# Altium schematic symbol library Schlib1.SchLib: 31 symbols
Pins are listed as number, name and electrical type; pins without a type are passive.

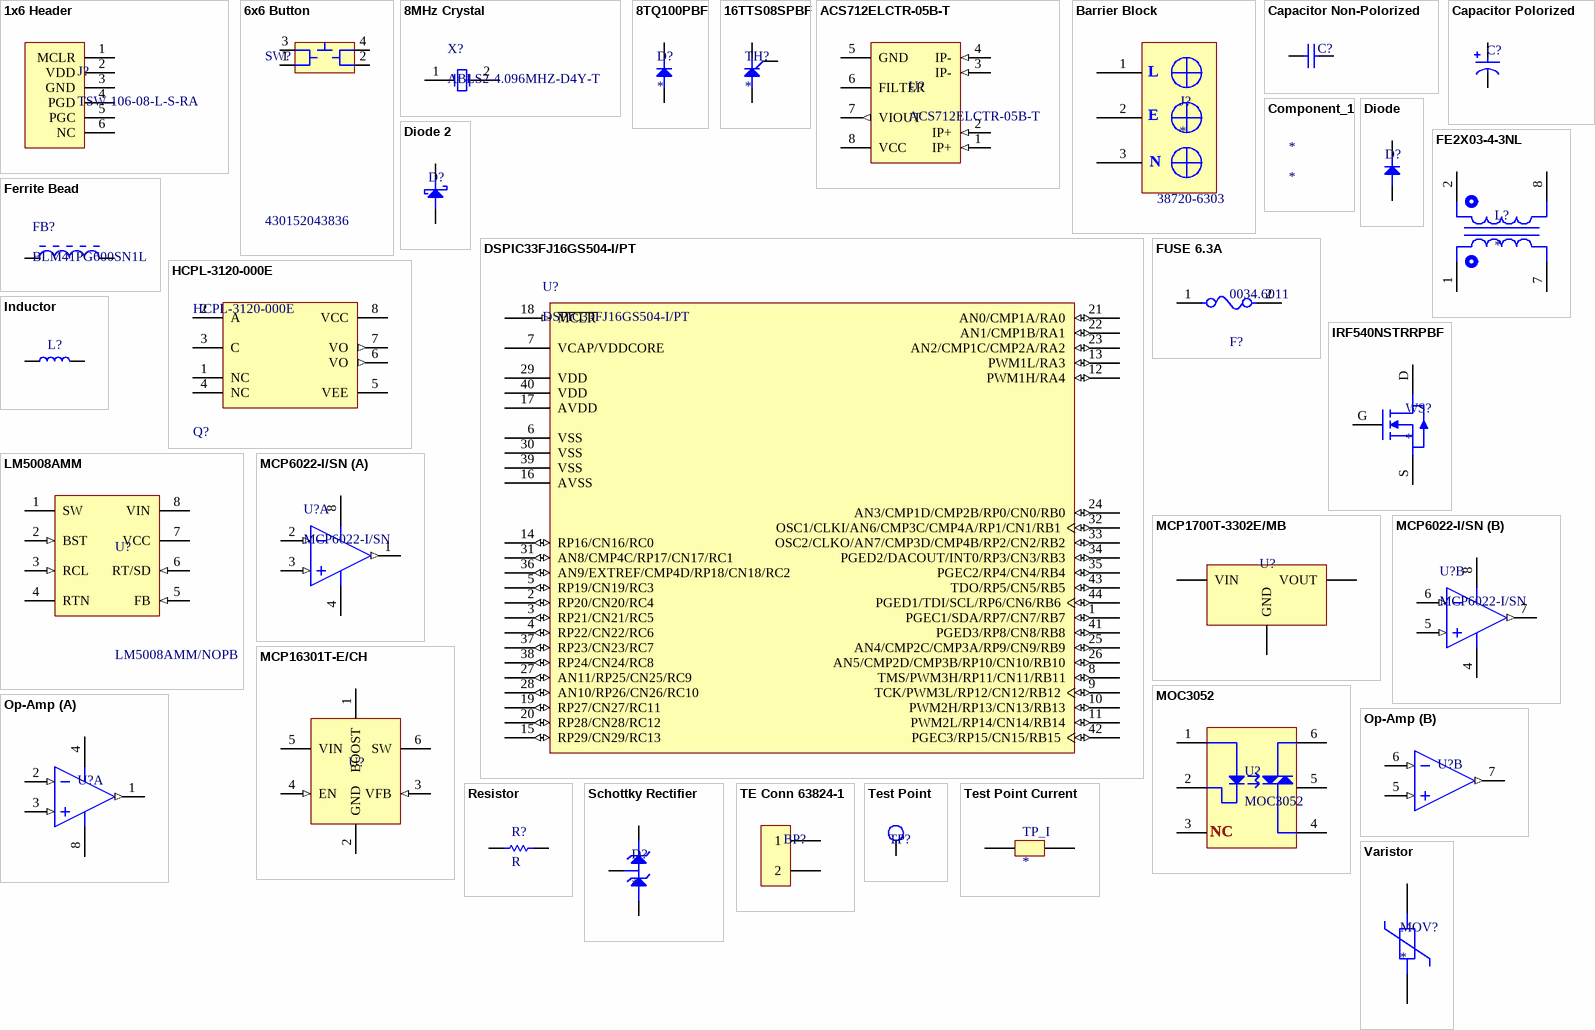
[diagram p0: symbols 1x6 Header to Varistor]

## 1x6 Header
designator J?, comment TSW-106-08-L-S-RA
0.025" SQ Post Header, Through-hole, Right Angle, -55 to 125 degC, 2.54 mm Pitch, 6-Pin, Male, RoHS; Manufacturer: Samtec; Pitch: 2.54 mm; ComponentLink2URL: http://www.samtec.com/documents/webfiles/pdf/TSW_TH.PDF; ComponentLink3Description: Package Specification; PackageVersion: DM, 8/1988; ComponentLink3URL: http://www.samtec.com/documents/webfiles/cpdf/TSW-XXX-XX-XXX-X-XX-XXX-MKT.pdf; ComponentLink1Description: Manufacturer URL; RoHS: True; ComponentLink2Description: Datasheet; PackageDescription: .025[0.64] SQ. Post Terminal Strip Assembly; Temperature Range: -55 to 125 degC; Orientation: Right Angle; DatasheetVersion: F-214; PartNumber: TSW-106-08-L-S-RA; PackageReference: TSW-106-08-X-S-RA; ComponentLink1URL: http://www.samtec.com; Mounting Technology: Through-hole
footprint 1x6 Header 2.54mm (.025 SQ Post Terminal Strip Assembly, 1x6 Pins, Right Angle, 2.54mm Pitch, Male)
pins: 1 MCLR, 2 VDD, 3 GND, 4 PGD, 5 PGC, 6 NC

## 6x6 Button
designator SW?, comment 430152043836
WS-TASV SMD Tact Switch 6X6 mm; Manufacturer: Wuerth Elektronik; NoPins: 04; PartNumber: 430152043836; ComponentLink2URL: http://katalog.we-online.de/em/datasheet/4301x2.pdf; ComponentLink1URL: http://www.we-online.com; ComponentLink2Description: Datasheet; ComponentLink1Description: Manufacturer URL; PackageReference: 430152043836
footprint 6x6mm Button (6*6mm vertical type, SMD, height 4.3mm, salmon actuator, 360gf, T&R)
pins: 1, 2, 3, 4

## 8MHz Crystal
designator X?, comment ABLS2-4.096MHZ-D4Y-T
Low Profile Surface Mount Microprocessor Crystal, 4.096 MHz +/-30 ppm, 180 Ohm, -40 to 85 degC, 2-Pin 11.4 x 4.7 x 3.3 mm SMD, RoHS, Tape and Reel; Manufacturer: Abracon; Operation Mode: Fundamental or 3rd Overtone; Shunt Capacitance: 7 pF Max.; ESR: 180 Ohm; Load Capacitance: 18 pF; Mounting Technology: Surface Mount; PackageDescription: 2-Pin SMD, Body 11.4 x 4.7 mm, Height 3.3 mm; ComponentLink1URL: http://www.abracon.com/; Freq. Stability: +/- 30 ppm; ComponentLink2Description: Datasheet; PartNumber: ABLS2-4.096MHZ-D4Y-T; Operating Temp. Range: -40 to 85 degC; Packing: Tape and Reel; RoHS: TRUE; PackageReference: ABLS2-2; DatasheetVersion: Rev. 03.31.11; Freq. Tolerance: +/- 30 ppm; Frequency: 4.096 MHz; ComponentLink2URL: http://www.abracon.com/Resonators/ABLS2.pdf; ComponentLink1Description: Manufacturer URL
footprint HC-49/US Crystal Footprint (SMD, 2-Leads, Body 11.4x4.7mm, Height 3.3mm)
pins: 1 X1, 2 X2

## 8TQ100PBF
designator D?
Diode Schottky 100V 8A Through Hole TO-220AC; MF: Vishay Semiconductor; MP: 8TQ100PBF; SnapEDA_Link: https://www.snapeda.com/parts/8TQ100PBF/Vishay%20Semiconductor%20Diodes%20Division/view-part/454671/?ref=snap; Price: None; Value: *; Availability: Unavailable; Package: TO-220 Vishay
footprint TO-220-2PIN
pins: A, K

## 16TTS08SPBF
designator TH?
Vishay, 16TTS08SPBF, Thyristor, 800V 10A, 60mA 3-pin, D2PAK; Hold Current: 100mA; RMS Current (Irms): 16A; Supplier 1: RSComponents; Manufacturer: Vishay; Manufacturer Part Number: 16TTS08SPBF; RoHS: Yes; Category: Thyristors; Mount: Surface Mount; Case/Package: D2PAK; Number of Pins: 3; Min Operating Temperature: -40°C; Max Operating Temperature: 125°C; Packaging: Rail/Tube; Max Repetitive Reverse Voltage (Vrrm): 800V; Current: 16A; Voltage: 800V; Length: 10.67mm; Height: 4.83mm; Width: 9.65mm; Lead Free: Lead Free; ComponentLink1URL: https://datasheet.ciiva.com/14801/vs-16tts08s-14801778.pdf?src-supplier=Arrow; ComponentLink1Description: https://datasheet.ciiva.com/14801/vs-16tts08s-14801778.pdf?src-supplier=Arrow; ComponentLink2URL: https://datasheet.ciiva.com/25624/0900766b800a9d57-25624882.pdf?src-supplier=RSComponents; ComponentLink2Description: https://datasheet.ciiva.com/25624/0900766b800a9d57-25624882.pdf?src-supplier=RSComponents; ComponentLink3URL: https://datasheet.ciiva.com/15247/vs-16tts08s-15247366.pdf?src-supplier=Arrow+Europe; ComponentLink3Description: https://datasheet.ciiva.com/15247/vs-16tts08s-15247366.pdf?src-supplier=Arrow+Europe; ComponentLink4URL: https://datasheet.ciiva.com/14166/07209018-14166634.pdf?src-supplier=Distrelec; ComponentLink4Description: https://datasheet.ciiva.com/14166/07209018-14166634.pdf?src-supplier=Distrelec; Supplier Part Number 1: 2640717P
pins: 1, A, K

## ACS712ELCTR-05B-T
designator U?
Linear Current Sensor, 4.5 to 5.5 V, 10 mA Output Current, -40 to 85 degC, 8-Pin SOIC (LC), RoHS, Tape and Reel; Manufacturer: Allegro Microsystems; SVHC: NoSVHC(19-Dec-2012); Supply Voltage Min: 4.5V; Accuracy: 1.5%; No. of Pins: 8; Supply Voltage Max: 5.5V; Bandwidth: 50kHz; Quiescent Current: 8mA; Supply Voltage Range: 4.5Vto5.5V; Polarisation: Unipolar; Package Description: 8-Pin Small Outline Integrated Circuit, Body 4.9 x 3.9 mm, Pitch 1.27 mm; Operating Temperature Min: -40degC; Datasheet URL: http://www.allegromicro.com/~/media/Files/Datasheets/ACS712-Datasheet.ashx?la=en; Operating Temperature Range: -40degCto+85degC; MSL: MSL2-1year; Sensor Case Style: SOIC; Termination Type: SMD; Manufacturer URL: http://www.allegromicro.com/; Sensor / Transducer Type: Current; Package Reference: LC-8; Operating Temperature Max: 85degC; Datasheet Version: Rev. 15, 11/2012
footprint 8 Lead SOIC (SOIC, 8-Leads, Body 4.9x3.9mm, Pitch 1.27mm)
pins: 1 IP+ (in) "Terminals for current being sampled; fused internally", 2 IP+ (in) "Terminals for current being sampled; fused internally", 3 IP- (in) "Terminals for current being sampled; fused internally", 4 IP- (in) "Terminals for current being sampled; fused internally", 5 GND (power) "Signal ground terminal", 6 FILTER "Terminal for external capacitor that sets bandwidth", 7 VIOUT (out) "Analog output signal", 8 VCC (power) "Device power supply terminal"

## Barrier Block
designator J?  Supplier Part Number 1: 38720-6303
Conn Barrier Strip 3 POS 9.52mm Solder ST Thru-Hole 15A/Contact; Manufacturer: Molex; Manufacturer Part Number: 0387206303; Number of Circuits: 3; Current Rating: 15A; Voltage Rating: 300V; Pitch: 0.375inch; Wire Gauge (Max): 22AWG; Wire Gauge (Min): 14AWG; Supplier 1: Arrow; RoHS: Yes; Category: Terminal Blocks; Stock 1: 404; Pricing 1: 1=2.52170, 10=1.97000, 25=1.82640, 50=1.64670, 100=1.59580, 250=1.40110, 500=1.27850, 1000=1.15620, 5000=1.01550 (USD); Mount: Through Hole; Contact Plating: Zinc; Contact Material: Steel; Color: Black; Housing Material: Thermoplastic; Housing Color: Black; Insulation Material: Thermoplastic; Min Operating Temperature: -40°C; Max Operating Temperature: 130°C; Termination: Solder; Number of Contacts: 3; Number of Rows: 1; Packaging: Tray; Orientation: Straight; Number of Wire Entries: 3; Max Supply Voltage: 300V; Length: 30.7mm; Depth: 15.7mm; Radiation Hardening: No; Flammability Rating: UL94 V-0; ComponentLink1URL: https://datasheet.ciiva.com/15170/getdatasheetpartid-255060-15170068.pdf?src-supplier=Verical; ComponentLink1Description: https://datasheet.ciiva.com/15170/getdatasheetpartid-255060-15170068.pdf?src-supplier=Verical; ComponentLink2URL: https://datasheet.ciiva.com/3141/0387206303-terminal-blocks-3141193.pdf?src-supplier=Avnet; ComponentLink2Description: https://datasheet.ciiva.com/3141/0387206303-terminal-blocks-3141193.pdf?src-supplier=Avnet; ComponentLink3URL: https://datasheet.ciiva.com/18547/387206306-sd-18547693.pdf?src-supplier=Digi-Key; ComponentLink3Description: https://datasheet.ciiva.com/18547/387206306-sd-18547693.pdf?src-supplier=Digi-Key
footprint Blcok Terminal
pins: 1, 2, 3
text: L; E; N

## Capacitor Non-Polorized
designator C?
Value: 10uF; Case-EIA: 1206; Tolerance: -20% to +80%; Rated Voltage: 25 V; Case-Metric: 3216; Max Thickness: 1.9 mm; Technology: SMT
footprint 1206 CAPACITOR (Chip Capacitor, Body 3.2x1.6mm, Height 1.9mm, IPC Low Density)
pins: 1, 2
1 alternate drawing of the same symbol

## Capacitor Polorized
designator C?
Value: 10uF; Case-EIA: 1206; Tolerance: -20% to +80%; Rated Voltage: 25 V; Case-Metric: 3216; Max Thickness: 1.9 mm; Technology: SMT
footprint 1206 CAPACITOR (Chip Capacitor, Body 3.2x1.6mm, Height 1.9mm, IPC Low Density)
pins: 1, 2
1 alternate drawing of the same symbol

## Component_1
designator *

## Diode
designator D?
footprint SOT-523F
footprint SOD-323 (SOD, 2-Leads, Body 1.7x1.25mm)
footprint DO-214AC-SMA (Molded Diode, 2-Leads, Body 4.75x2.95mm)
pins: A, K

## Diode 2
designator D?
Manufacturer: FairchildSemiconductor; Type: SchottkyDiode; Peak Average Forward Current: 1@Ta=75CA; Peak Reverse Current: 200uA; Peak Non-Repetitive Surge Current: 40A; Configuration: Single; Peak Forward Voltage: 0.7V; Peak Reverse Repetitive Voltage: 60V; Package: 2DO-214AC; Datasheet URL: http://www.mouser.com/ds/2/149/SS16-196707.pdf; Package Description: 2-Pin Surface Mount Device, Body 4.375 x 2.725 mm; Packaging: Tape&Reel; Package Reference: SMA-2; Mounting: SurfaceMount; Operating Temperature: -65to125°C; Datasheet Version: Rev. 1.9, 01/2015; Mounting Technology: SurfaceMount; Category: Rectifier; Manufacturer URL: https://www.fairchildsemi.com/
footprint DO-214AC-SMA (Molded Diode, 2-Leads, Body 4.75x2.95mm)
pins: 1, 2

## DSPIC33FJ16GS504-I/PT
designator U?
High-Performance 16-bit Digital Signal Controller, 16 KB Flash, 2 KB RAM , 44-Pin TQFP, Industrial Temperature; PackageVersion: revBB, Aug-2009; PackageDescription: 44-Lead Plastic Thin Quad Flatpack (PT) - 10x10x1mm Body, 2.00mm [TQFP]; Code_JEDEC: MS-026; PackageReference: TQFP-PT44; DatasheetVersion: revD, Mar-2009
footprint dsPIC33F16GS504 Connector
pins: 1 PGEC1/SDA/RP7/CN7/RB7 (io), 2 RP20/CN20/RC4 (io), 3 RP21/CN21/RC5 (io), 4 RP22/CN22/RC6 (io), 5 RP19/CN19/RC3 (io), 6 VSS (power), 7 VCAP/VDDCORE (power), 8 TMS/PWM3H/RP11/CN11/RB11 (io), 9 TCK/PWM3L/RP12/CN12/RB12 (io), 10 PWM2H/RP13/CN13/RB13 (io), 11 PWM2L/RP14/CN14/RB14 (io), 12 PWM1H/RA4 (io), 13 PWM1L/RA3 (io), 14 RP16/CN16/RC0 (io), 15 RP29/CN29/RC13 (io), 16 AVSS (power), 17 AVDD (power), 18 ~{MCLR} (in), 19 RP27/CN27/RC11 (io), 20 RP28/CN28/RC12 (io), 21 AN0/CMP1A/RA0 (io), 22 AN1/CMP1B/RA1 (io), 23 AN2/CMP1C/CMP2A/RA2 (io), 24 AN3/CMP1D/CMP2B/RP0/CN0/RB0 (io), 25 AN4/CMP2C/CMP3A/RP9/CN9/RB9 (io), 26 AN5/CMP2D/CMP3B/RP10/CN10/RB10 (io), 27 AN11/RP25/CN25/RC9 (io), 28 AN10/RP26/CN26/RC10 (io), 29 VDD (power), 30 VSS (power), 31 AN8/CMP4C/RP17/CN17/RC1 (io), 32 OSC1/CLKI/AN6/CMP3C/CMP4A/RP1/CN1/RB1 (io), 33 OSC2/CLKO/AN7/CMP3D/CMP4B/RP2/CN2/RB2 (io), 34 PGED2/DACOUT/INT0/RP3/CN3/RB3 (io), 35 PGEC2/RP4/CN4/RB4 (io), 36 AN9/EXTREF/CMP4D/RP18/CN18/RC2 (io), 37 RP23/CN23/RC7 (io), 38 RP24/CN24/RC8 (io), 39 VSS (power), 40 VDD (power), 41 PGED3/RP8/CN8/RB8 (io), 42 PGEC3/RP15/CN15/RB15 (io), 43 TDO/RP5/CN5/RB5 (io), 44 PGED1/TDI/SCL/RP6/CN6/RB6 (io)

## FE2X03-4-3NL
designator L?
CHOKE COM MODE 2PHASE NOISE SUP; Manufacturer: Pulse; Manufacturer Part Number: FE2X03-4-3NL; Number of Lines: 2; Lead/Base Style: PC Pin; Inductance: 3.3mH; DC Resistance (DCR): 90mR; Current: 2.5A; Self Resonant Frequency: 700kHz; Supplier 1: Mouser; RoHS: Yes; Category: Common Mode Chokes; Stock 1: 485; Pricing 1: 1=3.62000, 10=3.22000, 100=2.17000, 250=2.10000, 500=1.93000, 1000=1.81000 (USD); Mount: Through Hole; Case/Package: DIP; Number of Pins: 4; Min Operating Temperature: 0°C; Max Operating Temperature: 60°C; Packaging: Rail/Tube; Package Quantity: 20; Max DC Current: 2.5A; Termination: Radial; Length: 22.9mm; Height: 0.606inch; Width: 22.9mm; Lead Pitch: 4mm; Depth: 22.9mm; Radiation Hardening: No; ComponentLink1URL: https://datasheet.ciiva.com/3293/+p538-3293276.pdf?src-supplier=Avnet; ComponentLink1Description: https://datasheet.ciiva.com/3293/+p538-3293276.pdf?src-supplier=Avnet; ComponentLink2URL: https://datasheet.ciiva.com/6214/+p538-6214495.pdf?src-supplier=Digi-Key; ComponentLink2Description: https://datasheet.ciiva.com/6214/+p538-6214495.pdf?src-supplier=Digi-Key; Supplier Part Number 1: 673-FE2X03-4-3NL
footprint FE2X03-4-3NL
pins: 1, 2, 7, 8

## Ferrite Bead
designator FB?, comment BLM41PG600SN1L
Chip Ferrite Bead for Power Lines, 60 Ohm, 6000 mA, -55 to 125 degC, 4.5 x 1.6 x 1.8 mm SMD, Tape and Reel; Manufacturer: Murata; Rated Current: 6000 mA; Impedance (at 100 MHz): 60 Ohm Typ.; DC Resistance: 0.009 Ohm Max.; Packing: Tape and Reel; Mounting Technology: Surface Mount; ComponentLink3URL: http://www.murata.com/products/catalog/pdf/c31e.pdf; ComponentLink3Description: Package Specification; ComponentLink1URL: http://www.murata.com/; PackageDescription: 2-Pin Chip, Body 4.5 x 1.6 mm; ComponentLink1Description: Manufacturer URL; ComponentLink2URL: http://www.murata.com/products/catalog/pdf/c31e.pdf; PartNumber: BLM41PG600SN1L; ComponentLink2Description: Datasheet; PackageReference: BLM41-2; Operating Temperature Range: -55 to 125 degC; DatasheetVersion: 08/2013
footprint Ferrite Bead (Chip Ferrite Bead, 2-Leads, Body 4.5x1.6mm, Height 1.8mm, 35um Land Pad Thickness, 6A Rated Current)
pins: 1, 2

## FUSE 6.3A
designator F?, comment 0034.6011
FUSE BOARD MNT 500MA 250VAC RAD; Manufacturer: Schurter; Max Fuse Ac Voltage: 250V; Fuse I2T: 0.09A2Sec; Fuse Current: 0.5A; Standoff Height: 0.5mm; Fuse Voltage Drop: 350mV; Fuse Blow Speed: Fast; Category: Fuse; RoHS: TRUE; Device Class L3: unset; Lead Free: Yes; Height: 8.5mm; ComponentLink2URL: https://us.schurter.com/en/datasheet/typ_MSF_250.pdf; Voltage Rating: 250V; ComponentLink2Description: Datasheet; Ambient Temperature Range Low: -40°C; Digikey Description: FUSE BOARD MNT 500MA 250VAC RAD; Automotive: No; Octopart: https://octopart.com/0034.6011-schurter-8310; Package: 0034.6011; Manufacturer Part Number: 0034.6011; Device Class L2: Fuses; Ambient Temperature Range High: +85°C; Device Class L1: Circuit Protection
footprint 230VAC RADIAL FUSE
pins: 1, 2

## HCPL-3120-000E
designator Q?
OPTOISO 3.75KV 1CH GATE DVR 8DIP; Manufacturer: Broadcom; Power Dissipation: 295mW; Turn On Delay Time: 0.3us; Min Supply Voltage: 15V; Isolation Voltage: 3750Vrms; Reverse Voltage: 5V; Forward Voltage: 1.5V; Max Supply Voltage: 30V; Forward Current: 10mA; Standoff Height: 0.51mm; Temperature Range Low: -40°C; Device Class L2: Optocouplers; Automotive: No; Mouser Description: Optocoupler; THT; Channels: 1; Out: IGBT driver; 35kV/µs; 3.75kV; Height: 4.7mm; Digikey Description: OPTOISO 3.75KV 1CH GATE DVR 8DIP; Turn Off Delay Time: 0.3us; Device Class L3: unset; Package: DIP-8; RoHS: TRUE; ComponentLink2URL: https://docs.broadcom.com/docs/AV02-0161EN; Temperature: -40°C to +100°C; Temperature Range High: +100°C; Octopart: https://octopart.com/hcpl-3120-000e-broadcom-71128428; Manufacturer Part Number: HCPL-3120-000E; Category: Trans; Device Class L1: Optoelectronics; ComponentLink2Description: Datasheet; Lead Free: Yes; Ambient Temperature Range Low: -40°C; Ambient Temperature Range High: +100°C
footprint FP-DIP-8-MFG
pins: 1 NC, 2 A, 3 C, 4 NC, 5 VEE (power), 6 VO (out), 7 VO (out), 8 VCC (power)

## Inductor
designator L?
footprint Inductor MSS7341-224ML
footprint Inductor MEE3220-223KLB
pins: 1, 2

## IRF540NSTRRPBF
designator WS?
Transistor MOSFET N Channel 100 Volt 33 Amp 3-Pin 2+ Tab D2pak Tape And Reel; Manufacturer: International Rectifier; Manufacturer Part Number: IRF540NSTRRPBF; Continuous Drain Current (ID): 33A; Gate to Source Voltage (Vgs): 20V; Rise Time: 35ns; Turn-Off Delay Time: 39ns; Turn-On Delay Time: 11ns; Power Dissipation: 130W; Number of Elements: 1; Drain to Source Voltage (Vdss): 100V; Max Power Dissipation: 3.8W; Rds On Max: 8.4mR; Input Capacitance: 2.29nF; Drain to Source Resistance: 44mR; Element Configuration: Single; Nominal Vgs: 4V; Supplier 1: Future Electronics; RoHS: Yes; Category: MOSFETs; Stock 1: 12403; Pricing 1: 1=1.14000, 50=1.00000, 100=0.98500, 250=0.95500, 500=0.93500 (USD); Mount: Surface Mount; Case/Package: D2PAK; Number of Pins: 3; Min Operating Temperature: -55°C; Max Operating Temperature: 175°C; Packaging: Tape and Reel; Fall Time: 35ns; Package Quantity: 800; Drain to Source Breakdown Voltage: 100V; Voltage Rating (DC): 100V; Current Rating: 33A; Length: 10.67mm; Height: 4.83mm; Width: 9.65mm; Radiation Hardening: No; Lead Free: Lead Free; REACH SVHC: No SVHC; ComponentLink1URL: https://datasheet.ciiva.com/6370/irf540nspbf-6370457.pdf?src-supplier=Digi-Key; ComponentLink1Description: https://datasheet.ciiva.com/6370/irf540nspbf-6370457.pdf?src-supplier=Digi-Key; ComponentLink2URL: https://datasheet.ciiva.com/6370/irf540nspbf-6370459.pdf?src-supplier=Digi-Key; ComponentLink2Description: https://datasheet.ciiva.com/6370/irf540nspbf-6370459.pdf?src-supplier=Digi-Key; ComponentLink3URL: https://datasheet.ciiva.com/6370/irf540nspbf-6370462.pdf?src-supplier=Digi-Key; ComponentLink3Description: https://datasheet.ciiva.com/6370/irf540nspbf-6370462.pdf?src-supplier=Digi-Key; Supplier Part Number 1: IRF540NSTRLPBF-CUTT
pins: D 2, G 1, S 3

## LM5008AMM
designator U?, comment LM5008AMM/NOPB
100V, 350 mA Constant On-Time Buck Switching Regulator, 8-pin MSOP, Pb-Free; Manufacturer: Texas Instruments; CompType: Switcher; PackageTopMarking: ZXTT*SAYA; PowerWise: N; Code_JEDEC: MO-187-AA; ComponentLink1Description: Datasheet URL; RoHS: Y; PinCount: 8; PackageReference: DGK0008A; PackageDescription: MINI SOIC, .118 x .118 x .034in, 8 Lead, .0256in Pitch; ComponentLink1URL: http://www.ti.com/general/docs/lit/getliterature.tsp?genericPartNumber=LM5008A&fileType=pdf
footprint TSOP 8-LEADS (TSOP, 8-Leads, Body 3.1x3.1mm, Pitch 0.65mm, IPC Low Density)
pins: 1 SW (power), 2 BST (in), 3 RCL (in), 4 RTN (power), 5 FB (in), 6 RT/SD (in), 7 VCC (power), 8 VIN (power)

## MCP1700T-3302E/MB
designator U?
MICROCHIP - MCP1700T-3302E/MB - V REG, LDO, 0.25A, SMD, SOT-89-8; Supplier 1: Avnet; Manufacturer: Microchip; Manufacturer Part Number: MCP1700T-3302E/MB; RoHS: Yes; Category: Voltage Regulators - Linear; Stock 1: 7000; Pricing 1: 1000=0.30000, 2000=0.29520, 4000=0.28800, 6000=0.28320, 8000=0.27840 (USD); ComponentLink1URL: https://datasheet.ciiva.com/2040/21826b-2040133.pdf?src-supplier=Digi-Key; ComponentLink1Description: https://datasheet.ciiva.com/2040/21826b-2040133.pdf?src-supplier=Digi-Key; ComponentLink2URL: https://datasheet.ciiva.com/8239/21826b-8239141.pdf?src-supplier=Avnet; ComponentLink2Description: https://datasheet.ciiva.com/8239/21826b-8239141.pdf?src-supplier=Avnet; ComponentLink3URL: https://datasheet.ciiva.com/2040/21826b-2040134.pdf?src-supplier=Digi-Key; ComponentLink3Description: https://datasheet.ciiva.com/2040/21826b-2040134.pdf?src-supplier=Digi-Key; ComponentLink4URL: https://datasheet.ciiva.com/46425/21826b-46425574.pdf?src-supplier=Element14; ComponentLink4Description: https://datasheet.ciiva.com/46425/21826b-46425574.pdf?src-supplier=Element14; ComponentLink5URL: https://datasheet.ciiva.com/2040/21826b-2040135.pdf?src-supplier=Digi-Key; ComponentLink5Description: https://datasheet.ciiva.com/2040/21826b-2040135.pdf?src-supplier=Digi-Key; ComponentLink6URL: https://datasheet.ciiva.com/14150/mcp1700-eng-tds-14150121.pdf?src-supplier=Distrelec; ComponentLink6Description: https://datasheet.ciiva.com/14150/mcp1700-eng-tds-14150121.pdf?src-supplier=Distrelec; ComponentLink7URL: https://datasheet.ciiva.com/22710/77612-22710987.pdf?src-supplier=Element14; ComponentLink7Description: https://datasheet.ciiva.com/22710/77612-22710987.pdf?src-supplier=Element14; ComponentLink8URL: https://datasheet.ciiva.com/16372/filehandler-aspxddocname-en011779-16372940.pdf?src-supplier=Future+Electronics; ComponentLink8Description: https://datasheet.ciiva.com/16372/filehandler-aspxddocname-en011779-16372940.pdf?src-supplier=Future+Electronics; Supplier Part Number 1: MCP1700T-3302E/MB
footprint SOT23-3 (SOT23, 3-Leads, Body 3x1.4mm, Pitch 0.95mm, IPC Low Density)
pins: 1 GND, 2 VIN, 3 VOUT

## MCP6022-I/SN
designator U?
Rail-to-Rail Input/Output, 10 MHz Operational Amplifier, 8-Pin SOIC, Industrial Temperature; PackageDescription: 8-Lead Plastic Small Outline (SN) - Narrow, 3.90mm Body [SOIC]; ComponentLink2Description: Datasheet; ComponentLink3Description: Package Specification; Code_JEDEC: MS-012; RevisionNote: URLs added.; DatasheetVersion: revD, Feb-2009; Code_IPC: SOIC127P600-8; ComponentLink3URL: http://www.microchip.com/stellent/groups/techpub_sg/documents/packagingspec/en012702.pdf; PackageReference: SOIC-SN8; PackageVersion: revBB, Aug-2009; ComponentLink2URL: http://ww1.microchip.com/downloads/en/DeviceDoc/21685d.pdf; ComponentLink1URL: http://www.microchip.com/; ComponentLink1Description: Manufacturer URL
footprint SOIC-SN8_M (SOIC, 8-Leads, Body 4.9x3.9mm, Pitch 1.27mm, IPC Low Density)
pins on every part: 4 VSS (power), 8 VDD (power)
part A pins: 1 VOUTA (out), 2 VINA- (in), 3 VINA+ (in)
part B pins: 5 VINB+ (in), 6 VINB- (in), 7 VOUTB (out)

## MCP16301T-E/CH
designator U?
High-Voltage Input Integrated Switch Step-Down Regulator, 600 mA, Input Voltage 4.0 to 30 V, Output Voltage 2.0 to 15 V, -40 to 125 degC, 6-pin SOT-23 (CH6), Tape and Reel; Manufacturer: Microchip; PartNumber: MCP16301T-E/CH; ComponentLink3Description: Package Specification; PackageDescription: 6-Lead Plastic Small Outline Transistor, 2.9 x 1.55 mm Body, 0.95 mm Pitch; PackageReference: SOT-23-CH6; ComponentLink4Description: Product URL; ComponentLink1URL: http://www.microchip.com; ComponentLink4URL: http://www.microchip.com/MCP16301; ComponentLink2Description: Datasheet; Mounting Technology: Surface Mount; DatasheetVersion: Rev. B; ComponentLink1Description: Manufacturer URL; ComponentLink2URL: http://ww1.microchip.com/downloads/en/DeviceDoc/25004B.pdf; ComponentLink3URL: http://www.microchip.com/stellent/groups/techpub_sg/documents/packagingspec/en012702.pdf; PackageVersion: C04-028B
footprint SOT-23-6 (SOT23, 6-Leads, Body 2.9x1.55mm, Pitch 0.95mm, IPC Low Density)
pins: 1 BOOST (power) "Boost voltage that drives the internal NMOS control switch. A bootstrap capacitor is connected between the BOOST and SW pins.", 2 GND (power) "Ground Pin", 3 VFB (in) "Output voltage feedback pin. Connect VFB to an external resistor divider to set the output voltage.", 4 EN (in) "Enable pin. Logic high enables the operation. Do not allow this pin to float", 5 VIN (power) "Input supply voltage pin for power and internal biasing.", 6 SW (power) "Output switch node, connects to the inductor, freewheeling diode and the bootstrap capacitor."

## MOC3052
designator U?
SCR Optoizolator
footprint SDIP6
pins: 1, 2, 3, 4, 5, 6
text: NC

## Op-Amp
designator U?
PackageDescription: 8-Lead Plastic Small Outline (SN) - Narrow, 3.90mm Body [SOIC]; ComponentLink2Description: Datasheet; ComponentLink3Description: Package Specification; Code_JEDEC: MS-012; RevisionNote: URLs added.; DatasheetVersion: revD, Feb-2009; Code_IPC: SOIC127P600-8; ComponentLink3URL: http://www.microchip.com/stellent/groups/techpub_sg/documents/packagingspec/en012702.pdf; PackageReference: SOIC-SN8; PackageVersion: revBB, Aug-2009; ComponentLink2URL: http://ww1.microchip.com/downloads/en/DeviceDoc/21685d.pdf; ComponentLink1URL: http://www.microchip.com/; ComponentLink1Description: Manufacturer URL
footprint SOIC-SN8_M (SOIC, 8-Leads, Body 4.9x3.9mm, Pitch 1.27mm, IPC Low Density)
part A pins: 1 VOUTA (out), 2 VINA- (in), 3 VINA+ (in), 4, 8
part B pins: 5 VINB+ (in), 6 VINB- (in), 7 VOUTB (out)

## Resistor
designator R?, comment R
footprint 1206 Resistor Footprint (Chip Resistor, 2-Leads, Body 3.20x1.60mm, IPC Low Density)
pins: 1, 2

## Schottky Rectifier
designator D?
footprint SOT23-3 (SOT23, 3-Leads, Body 3x1.4mm, Pitch 0.95mm, IPC Low Density)
pins: 1, 2, 3

## TE Conn 63824-1
designator BP?
CONN QC TAB 0.250 SOLDER; Manufacturer: TE Connectivity; Manufacturer Part Number: 63824-1; Body Material: Brass; Plating: Tin; Gender: Male; Insulation: Non-Insulated; Mating Tab Width: 0.25inch; Hole Diameter: 0.055inch; PCB Thickness: 0.062inch; Tab Width: 6.35mm; Tab Thickness: 0.83mm; Supplier 1: Arrow; RoHS: Yes; Category: Headers and Wire Housings; Stock 1: 2670000; Pricing 1: 10000=0.03800, 20000=0.03520, 30000=0.03230, 50000=0.03040, 10000=0.03920, 20000=0.03630, 30000=0.03330, 50000=0.03140 (USD); Mount: Through Hole; Contact Plating: Tin; Color: Silver; Contact Material: Brass; Material: Brass; Body Plating: Tin; Terminal Material: Brass; Min Operating Temperature: -30°C; Max Operating Temperature: 110°C; Packaging: Tape and Reel; Package Quantity: 10000; Termination: Tab; Orientation: Straight; Length: 13.63mm; Height: 14.02mm; Depth: 7.92mm; Radiation Hardening: No; Lead Free: Lead Free; REACH SVHC: Unknown; ELV: Compliant; ComponentLink1URL: https://datasheet.ciiva.com/19463/853927-19463156.pdf?src-supplier=Jameco; ComponentLink1Description: https://datasheet.ciiva.com/19463/853927-19463156.pdf?src-supplier=Jameco; ComponentLink2URL: https://datasheet.ciiva.com/11721/0900766b80ddd72b-11721738.pdf?src-supplier=RSComponents; ComponentLink2Description: https://datasheet.ciiva.com/11721/0900766b80ddd72b-11721738.pdf?src-supplier=RSComponents; ComponentLink3URL: https://datasheet.ciiva.com/16672/eng-cs-82004-faston-pcb-tabs-receptacles-0914-16672135.pdf?src-supplier=Avnet+Europe; ComponentLink3Description: https://datasheet.ciiva.com/16672/eng-cs-82004-faston-pcb-tabs-receptacles-0914-16672135.pdf?src-supplier=Avnet+Europe; ComponentLink4URL: https://datasheet.ciiva.com/46393/1650963-46393511.pdf?src-supplier=Element14; ComponentLink4Description: https://datasheet.ciiva.com/46393/1650963-46393511.pdf?src-supplier=Element14; ComponentLink5URL: https://datasheet.ciiva.com/839/eng-cd-63824-r-basefilename-839115.pdf?src-supplier=Digi-Key; ComponentLink5Description: https://datasheet.ciiva.com/839/eng-cd-63824-r-basefilename-839115.pdf?src-supplier=Digi-Key; ComponentLink6URL: https://datasheet.ciiva.com/7873/1650963-7873563.pdf?src-supplier=Element14; ComponentLink6Description: https://datasheet.ciiva.com/7873/1650963-7873563.pdf?src-supplier=Element14; ComponentLink7URL: https://datasheet.ciiva.com/3144/eng-cs-82004-faston-pcb-tabs-receptacles-0914-3144076.pdf?src-supplier=Avnet; ComponentLink7Description: https://datasheet.ciiva.com/3144/eng-cs-82004-faston-pcb-tabs-receptacles-0914-3144076.pdf?src-supplier=Avnet; ComponentLink8URL: https://datasheet.ciiva.com/15168/getdatasheetpartid-110188-15168813.pdf?src-supplier=Verical; ComponentLink8Description: https://datasheet.ciiva.com/15168/getdatasheetpartid-110188-15168813.pdf?src-supplier=Verical; ComponentLink9URL: https://datasheet.ciiva.com/16494/eng-cs-82004-faston-pcb-tabs-receptacles-0914-16494590.pdf?src-supplier=Avnet+Asia; ComponentLink9Description: https://datasheet.ciiva.com/16494/eng-cs-82004-faston-pcb-tabs-receptacles-0914-16494590.pdf?src-supplier=Avnet+Asia; Supplier Part Number 1: 63824-1
footprint TECO-63824-1_V (THD, 2-Leads, Body 7.92x3.08mm, Pitch 5.08mm)
pins: 1, 2

## Test Point
designator TP?
footprint Test Point
pins: 1

## Test Point Current
designator TP_I
pins: 1, 2

## Varistor
designator MOV?
SUPPRESSOR; Product Range:AdvanceD Series; Voltage Rating VDC:350V; Peak Surge Current @ 8/20 S:6kA; Varistor Case Style:Disc 14mm; Clamping Voltage Vc Max:710V; Peak Energy (10/1000uS):110J; Voltage Rating VAC:275V; MSL:- ;RoHS Compliant: Yes; Manufacturer: TDK EPCOS; Manufacturer Part Number: B72214S2271K101; Number of Circuits: 1; Max Voltage Rating (AC): 275V; Max Voltage Rating (DC): 350V; Energy: 110J; Max Surge Current: 6kA; Min Varistor Voltage: 387V; Varistor Voltage: 430V; Max Varistor Voltage: 473V; Supplier 1: Mouser; RoHS: Yes; Category: Varistors; Stock 1: 3472; Pricing 1: 1=0.58000, 10=0.43600, 100=0.28900, 1000=0.21800, 2500=0.19000, 10000=0.17300, 25000=0.16800, 50000=0.16400, 100000=0.16000 (USD); Mount: Through Hole; Case/Package: Radial; Package Quantity: 500; Packaging: Bulk; ComponentLink1URL: https://datasheet.ciiva.com/3024/siov-leaded-advanced-3024826.pdf?src-supplier=Avnet; ComponentLink1Description: https://datasheet.ciiva.com/3024/siov-leaded-advanced-3024826.pdf?src-supplier=Avnet; Supplier Part Number 1: 871-B72214S2271K101
footprint DISC 14MM
pins: 1, 2